# Altium schematic symbol library Schlib1.SchLib: 1 symbol
Pins are listed as number, name and electrical type; pins without a type are passive.

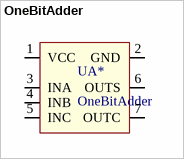
[diagram p0: symbol OneBitAdder]

## OneBitAdder
designator UA*
一位全加法器
footprint OneBitAdder
pins: 1 VCC, 2 GND, 3 INA, 4 INB, 5 INC, 6 OUTS, 7 OUTC